# EAGLE library part BALUN (library openmotestm)
Chip-Balun WE-BAL
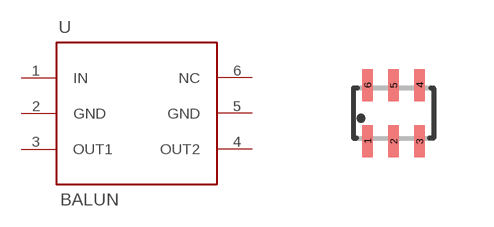
[diagram p2: symbol with the pads of BALUN; footprint BALUN]

Designator prefix -

## BALUN  [BALUN]
1  IN
2  GND  pwr
3  OUT1
4  OUT2
5  GND  pwr
6  NC

## Footprint BALUN (pad centres in mm)
SMD-Balun Footprint
smd 0.27 x 0.8: 1 -0.7,-0.7; 2 -0.05,-0.7; 3 0.6,-0.7; 4 0.6,0.7; 5 -0.05,0.7; 6 -0.7,0.7